# EAGLE library part SCO-BB (library sakuraio)
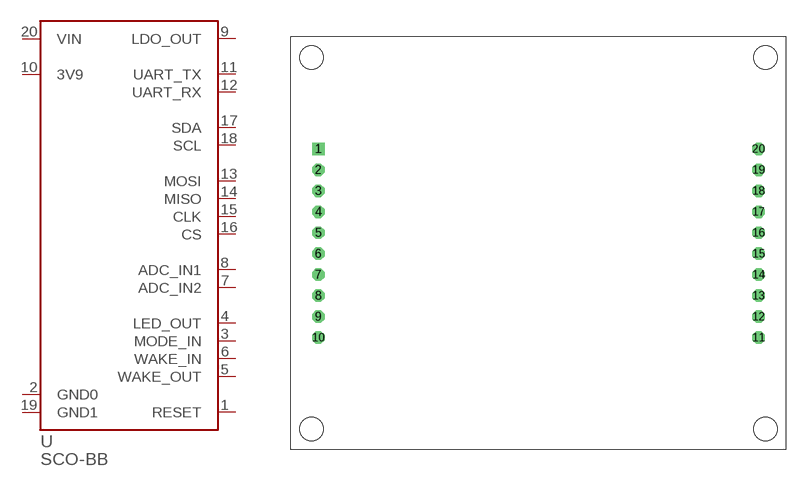
[diagram p1: symbol with the pads of SCO-BB; footprint SCO-BB]

Designator prefix -

## SCO-BB  [SCO-BB]
1  RESET  in
2  GND0  pwr
3  MODE_IN  in
4  LED_OUT  out
5  WAKE_OUT  out
6  WAKE_IN  in
7  ADC_IN2  in
8  ADC_IN1  in
9  LDO_OUT  sup
10  3V9  pwr
11  UART_TX  out
12  UART_RX  in
13  MOSI
14  MISO
15  CLK
16  CS
17  SDA
18  SCL
19  GND1  pwr
20  VIN  pwr

## Footprint SCO-BB (pad centres in mm)
drill 1 square: 1 0,0
drill 1 octagon: 2 0,-2.54; 3 0,-5.08; 4 0,-7.62; 5 0,-10.16; 6 0,-12.7; 7 0,-15.24; 8 0,-17.78; 9 0,-20.32; 10 0,-22.86; 11 53.34,-22.86; 12 53.34,-20.32; 13 53.34,-17.78; 14 53.34,-15.24; 15 53.34,-12.7; 16 53.34,-10.16; 17 53.34,-7.62; 18 53.34,-5.08; 19 53.34,-2.54; 20 53.34,0
hole 2.8 at 54.17,-33.93
hole 2.8 at 54.17,11.07
hole 2.8 at -0.83,11.07
hole 2.8 at -0.83,-33.93